# Altium integrated library LT Power Mgt Battery Charger.IntLib: 1 symbol
Pins are listed as number, name and electrical type; pins without a type are passive.

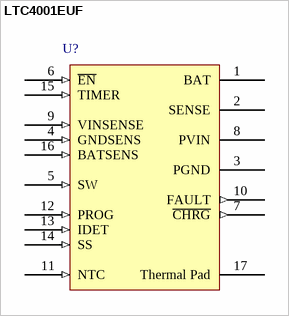
[diagram p0: symbol LTC4001EUF]

## LTC4001EUF
designator U?
2A Synchronous Buck Li-Ion Charger; Note: 1920; Published: 30-May-2008; DatasheetVersion: Apr-2006; PackageVersion: Oct-2002; PackageReference: UF16; Publisher: Altium Limited; PackageDescription: 16-Pin Plastic Quad Flat No-Lead 0.65 mm Pitch; Code_JEDEC: MO-220-WGGC; Code_IPC: QFN65P400X400-16W; ComponentLink1Description: Manufacturer Link; ComponentLink1URL: http://www.linear.com/; ComponentLink2Description: Datasheet; ComponentLink2URL: http://www.linear.com/pc/downloadDocument.do?navId=H0,C1,C1003,C1037,C1078,C1089,P21352,D14757
footprint UF16_N (QFN, 16-Leads, Body 4x4 mm, Pitch 0.65mm, IPC Medium Density)
footprint UF16_L (QFN, 16-Leads, Body 4x4 mm, Pitch 0.65mm, IPC High Density)
footprint UF16_M (QFN, 16-Leads, Body 4x4 mm, Pitch 0.65mm, IPC Low Density)
pins: 1 BAT (power) "Battery Charger Output Terminal", 2 SENSE "Internal Sense Resistor", 3 PGND (power) "Power Ground", 4 GNDSENS (in) "Ground Sense", 5 SW (in) "Switch Node Connection", 6 ~{EN} (in) "Enable Input Pin", 7 ~{CHRG} (out) "Open-Drain Charge Status Output", 8 PVIN (power) "Positive Supply Voltage Input", 9 VINSENSE (in) "Positive Supply Sense Input", 10 FAULT (out) "Battery Fault", 11 NTC (in) "Input to the Negative Temperature Coefficient Thermistor Temperature Monitoring Circuit", 12 PROG (in) "Charge Current Program", 13 IDET (in) "Charge Rate Detection Threshold", 14 SS (in) "Soft-Start/Compensation", 15 TIMER (in) "Timer Capacitor", 16 BATSENS (in) "Battery Sense Input", 17 Thermal Pad "Exposed Pad"